# Altium footprint library PJ037A.PcbLib: 1 footprints
Each footprint in its own frame and in the unit in brackets; x right, y up, seen from the top. Pads: shape width x height; smd on the part's side, far side on the other; paste and mask are expansions set on the pad; w line width, h text height; cw(c..) or ccw(c..) is an arc to the next point about the centre after c.
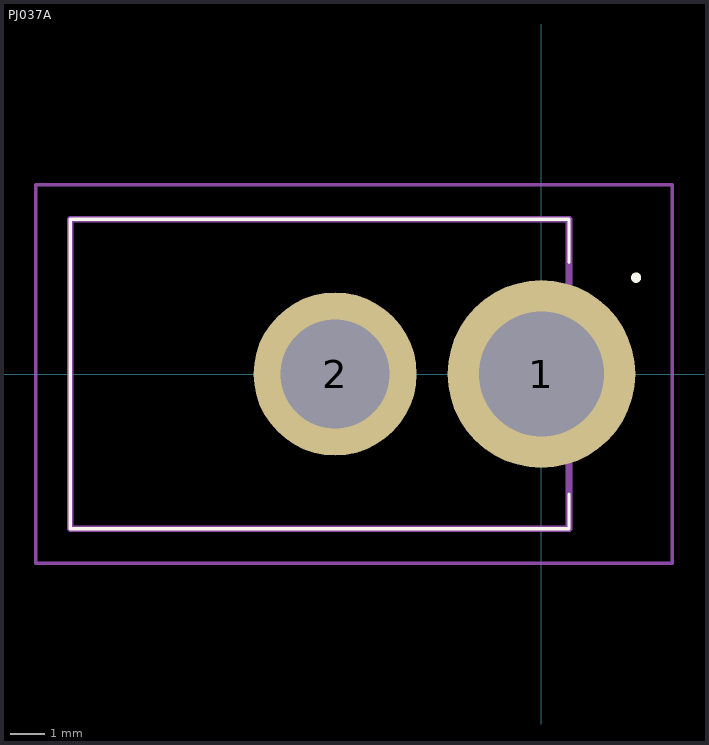
[diagram p0: the footprint, top view; thin cyan lines are the x and y axes]

## PJ037A [mm]
pads (2):
  round 5.46 hole 3.64: 1(0,0)
  round 4.74 hole 3.16: 2(-6,0)
Top Overlay:
  lines w0.1: -13.7,-4.5 -13.7,4.5 ; -13.7,-4.5 -13.7,-4.5 ; -13.7,-4.5 -13.7,4.5 ; -13.7,-4.5 0.8,-4.5 ; -13.7,-4.5 0.8,-4.5 ; -13.7,-4.5 -13.7,-4.5 ; -13.7,4.5 0.8,4.5 ; -13.7,4.5 -13.7,4.5 ; -13.7,4.5 0.8,4.5 ; -13.7,4.5 -13.7,4.5 ; 0.8,-4.5 0.8,-4.5 ; 0.8,-4.5 0.8,-4.5 ; 0.8,-4.5 0.8,-3.5 ; 0.8,-4.5 0.8,-3.5 ; 0.8,-3.5 0.8,-3.5 ; 0.8,3.25 0.8,3.25 ; 0.8,3.25 0.8,4.5 ; 0.8,3.25 0.8,4.5 ; 0.8,4.5 0.8,4.5 ; 0.8,4.5 0.8,4.5
  lines w0.2: 2.7,2.8 2.7,2.8 ; 2.7,2.8 ccw(c2.75,2.8) 2.8,2.8 ; 2.7,2.8 cw(c2.75,2.8) 2.8,2.8 ; 2.7,2.8 2.7,2.8 ; 2.7,2.8 ccw(c2.75,2.8) 2.8,2.8 ; 2.8,2.8 2.8,2.8
Mechanical 15:
  lines w0.2: -13.7,-4.5 0.8,-4.5 0.8,4.5 -13.7,4.5 -13.7,-4.5
Mechanical 20:
  lines w0.1: -14.7,-5.5 3.8,-5.5 3.8,5.5 -14.7,5.5 -14.7,-5.5